# Altium footprint library CFP-15-3(SOT1289).PcbLib: 1 footprints
Each footprint in its own frame and in the unit in brackets; x right, y up, seen from the top. Pads: shape width x height; smd on the part's side, far side on the other; paste and mask are expansions set on the pad; w line width, h text height; cw(c..) or ccw(c..) is an arc to the next point about the centre after c.
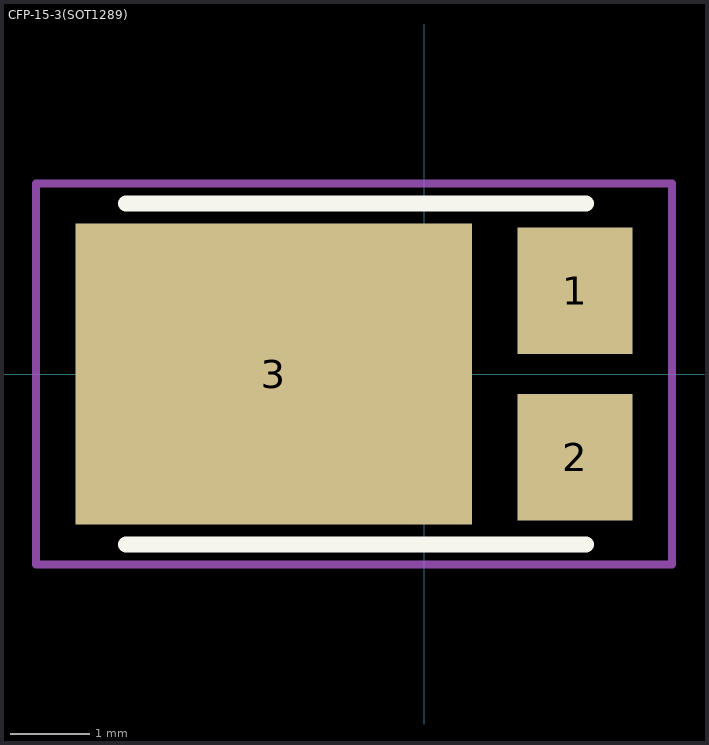
[diagram p0: the footprint, top view; thin cyan lines are the x and y axes]

## CFP-15-3(SOT1289) [mm]
height 1.2
pads (3):
  rect 1.45x1.6 smd paste-2 mask+0.1: 1(1.9,1.05) 2(1.9,-1.05)
  rect 5x3.8 smd paste-3 mask+0.1: 3(-1.9,0)
Top Overlay:
  lines w0.2: -3.762,-2.15 2.038,-2.15 ; -3.762,2.15 2.038,2.15
Top Courtyard:
  lines w0.1: -4.9,-2.4 -3.762,-2.4 3.125,-2.4 3.125,2.4 -4.9,2.4 -4.9,-2.4
3D body "PMEG060V050EPDZ.STEP": height 0.82, standoff 0, extent -4.112,-2.15 2.388,2.15